# EAGLE library part B8B-PHDSS (library pixel_masterlib)
CONN HEADER PHD TOP 8POS 2MM
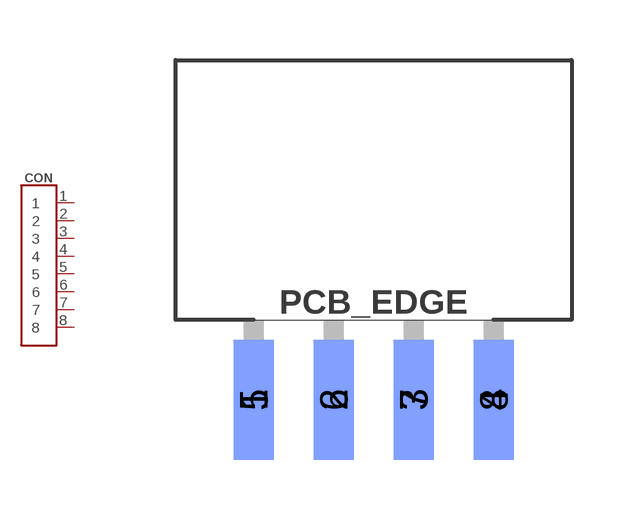
[diagram p7: symbol with the pads of B8B-PHDSS; footprint B8B-PHDSS]

Designator prefix CON

## B8B-PHDSS (DIGIKEY#: 455-2230-ND; MANF: JST Sales America Inc; MANF#: B8B-PHDSS(LF)(SN))  [B8B-PHDSS]
1  1
2  2
3  3
4  4
5  5
6  6
7  7
8  8

## Footprint B8B-PHDSS (pad centres in mm)
smd 1 x 3: 1 -3,-0.25; 2 -1,-0.25; 3 1,-0.25; 4 3,-0.25
smd 1 x 3 bottom: 5 -3,-0.25; 6 -1,-0.25; 7 1,-0.25; 8 3,-0.25